# Altium footprint library IHLP4040DZ_1.PcbLib: 1 footprints
Each footprint in its own frame and in the unit in brackets; x right, y up, seen from the top. Pads: shape width x height; smd on the part's side, far side on the other; paste and mask are expansions set on the pad; w line width, h text height; cw(c..) or ccw(c..) is an arc to the next point about the centre after c.
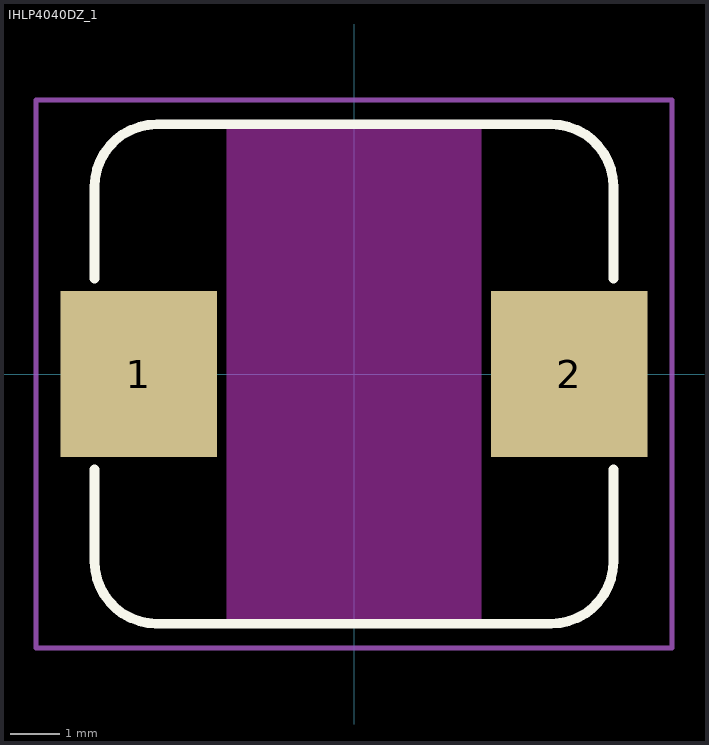
[diagram p0: the footprint, top view; thin cyan lines are the x and y axes]

## IHLP4040DZ_1 [mm]
pads (2):
  rect 3.2x3.4 smd: 1(-4.4,0) 2(4.4,0)
Top Layer keep-out:
  rectangle: -2.6,-5.1 2.6,5.1
Top Overlay:
  lines w0.2: -5.3,-1.95 -5.3,-3.83 ccw(c-4.03,-3.83) -4.03,-5.1 ; -5.3,1.95 -5.3,3.83 cw(c-4.03,3.83) -4.03,5.1 4.03,5.1 cw(c4.03,3.83) 5.3,3.83 5.3,1.95 ; -4.055,-5.1 4.03,-5.1 ccw(c4.03,-3.83) 5.3,-3.83 5.3,-1.95
Top Courtyard:
  lines w0.1: -6.5,-5.6 -2.6,-5.6 6.5,-5.6 6.5,5.6 -6.5,5.6 -6.5,-5.6
3D body "IHLP4040DZ (2.2-100uH).STEP": height 3.88, standoff 0, extent -5.311,-5.1 5.311,5.116